# EAGLE library part SIMHOLDER-8PIN (library Connectors)
8 (6 + 2) Position Card Connector SIM Card Surface Mount, Right Angle Gold
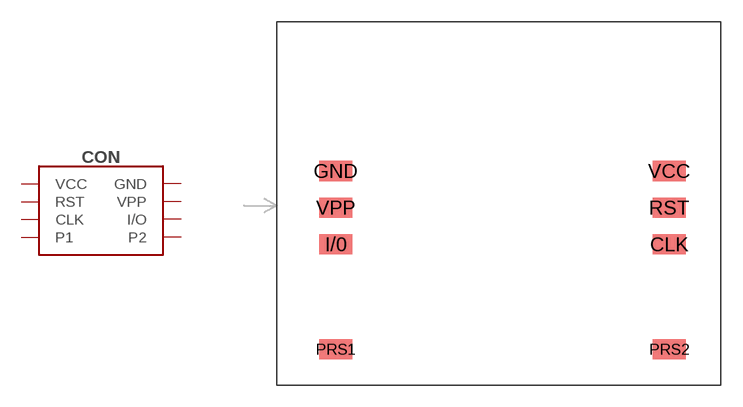
[diagram p2: symbol with the pads of MOLEX91228; footprint MOLEX91228]

Designator prefix CON

## SIMHOLDER-8PIN (DIGIKEY#: WM24086TR-ND; MANF: Molex LLC; MANF#: 0912283001)  [MOLEX91228]
CLK  CLK
GND  GND
I/0  I/O
PRS1  P1
PRS2  P2
RST  RST
VCC  VCC
VPP  VPP

## Footprint MOLEX91228 (pad centres in mm)
Datasheet <https://www.molex.com/pdm_docs/sd/912283001_sd.pdf>
smd 2.3 x 1.4: CLK 11.85,-2.85; GND -11.35,2.25; I/0 -11.35,-2.85; PRS1 -11.35,-10.15; PRS2 11.85,-10.15; RST 11.85,-0.3; VCC 11.85,2.25; VPP -11.35,-0.3